# Altium footprint library aiskylab-14Connectors-16D-SubCon.PcbLib: 5 footprints
Each footprint in its own frame and in the unit in brackets; x right, y up, seen from the top. Pads: shape width x height; smd on the part's side, far side on the other; paste and mask are expansions set on the pad; w line width, h text height; cw(c..) or ccw(c..) is an arc to the next point about the centre after c.
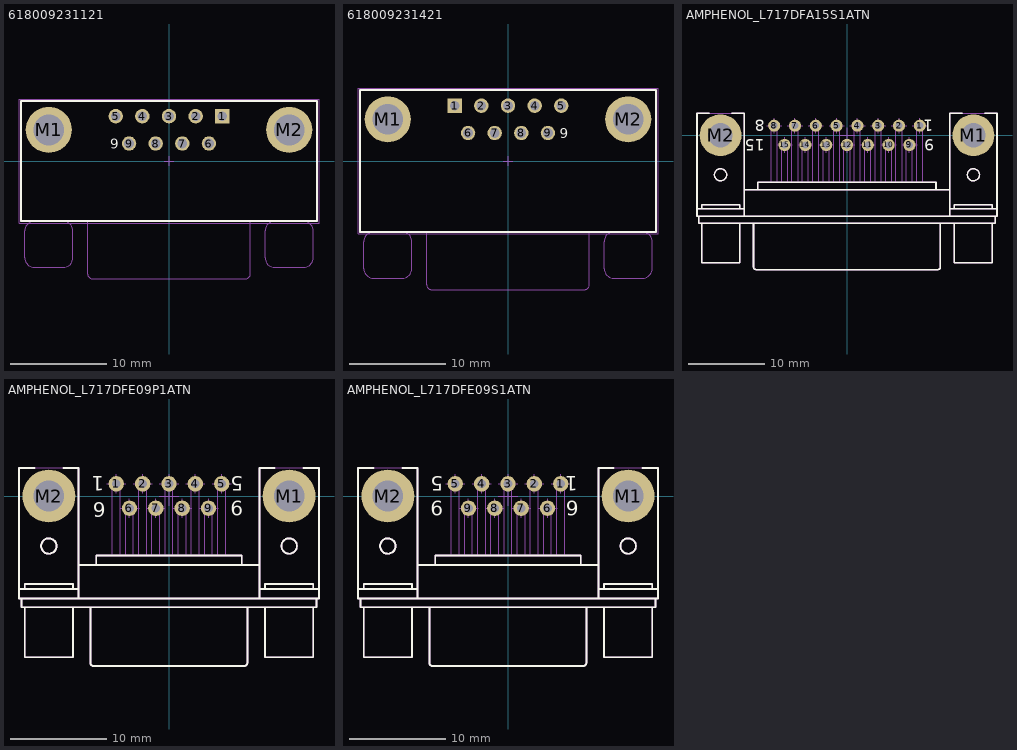
[diagram p0: the footprints below, top view; thin cyan lines are the x and y axes]

## 618009231121 [mm] "9 pins, right angled, 8.08mm, with hex screw"
height 12.5
pads (11):
  rect 1.5x1.5 hole 1: 1(5.54,4.67)
  round 1.5 hole 1: 2(2.77,4.67) 3(0,4.67) 4(-2.77,4.67) 5(-5.54,4.67) 6(4.155,1.83) 7(1.385,1.83) 8(-1.385,1.83) 9(-4.155,1.83)
  round 4.8 hole 3.2: M1(-12.5,3.25) M2(12.5,3.25)
Top Overlay:
  lines w0.2: -15.4,-6.25 -15.4,6.25 15.4,6.25 15.4,-6.25 -15.4,-6.25
  text "9" at -6.1,1.3 h1.02
Top Designator:
  lines w0.1: -15.4,-6.17 15.4,-6.17
  text "PCB Edge" at -3.5,-7.57 h1.02
  text ".Designator" at -7.618,-3.42 h1.52
Top Assembly:
  lines w0.1: -14,-6.25 ccw(c-14,-7.25) -15,-7.25 -15,-10.05 ccw(c-14,-10.05) -14,-11.05 -11,-11.05 ccw(c-11,-10.05) -10,-10.05 -10,-7.25 ccw(c-11,-7.25) -11,-6.25 ; -8.45,-6.25 -8.45,-11.75 ccw(c-7.95,-11.75) -7.95,-12.25 7.95,-12.25 ; 8.45,-6.25 8.45,-11.75 cw(c7.95,-11.75) 7.95,-12.25 ; 11,-6.25 ccw(c11,-7.25) 10,-7.25 10,-10.05 ccw(c11,-10.05) 11,-11.05 14,-11.05 ccw(c14,-10.05) 15,-10.05 15,-7.25 ccw(c14,-7.25) 14,-6.25 ; 7.95,-12.25 7.95,-12.25 ; -15.4,-6.25 15.4,-6.25 15.4,6.25 -15.4,6.25 -15.4,-6.25
Top Component Center:
  lines w0.05: -0.5,0 0.5,0 ; 0,-0.5 0,0.5
Top Component Outline:
  lines w0.05: -15.6,-6.45 15.6,-6.45 15.6,6.45 -15.6,6.45 -15.6,-6.45
Top 3D Body:
  lines w0.1: -14,-6.25 ccw(c-14,-7.25) -15,-7.25 -15,-10.05 ccw(c-14,-10.05) -14,-11.05 -11,-11.05 ccw(c-11,-10.05) -10,-10.05 -10,-7.25 ccw(c-11,-7.25) -11,-6.25 ; -8.45,-6.25 -8.45,-11.75 ccw(c-7.95,-11.75) -7.95,-12.25 7.95,-12.25 ; 8.45,-6.25 8.45,-11.75 cw(c7.95,-11.75) 7.95,-12.25 ; 11,-6.25 ccw(c11,-7.25) 10,-7.25 10,-10.05 ccw(c11,-10.05) 11,-11.05 14,-11.05 ccw(c14,-10.05) 15,-10.05 15,-7.25 ccw(c14,-7.25) 14,-6.25 ; 7.95,-12.25 7.95,-12.25 ; -15.4,-6.25 15.4,-6.25 15.4,6.25 -15.4,6.25 -15.4,-6.25
3D body "618009231121.stp": height 12.55, standoff -3.8, extent -15.4,-12.25 15.4,6.25

## 618009231421 [mm] "9 pins, right angled, 10.3mm, with hex screw"
height 12.5
pads (11):
  rect 1.5x1.5 hole 1: 1(-5.54,5.765)
  round 1.5 hole 1: 2(-2.77,5.765) 3(0,5.765) 4(2.77,5.765) 5(5.54,5.765) 6(-4.155,2.925) 7(-1.385,2.925) 8(1.385,2.925) 9(4.155,2.925)
  round 4.8 hole 3.2: M1(-12.5,4.345) M2(12.5,4.345)
Top Overlay:
  lines w0.2: -15.4,-7.375 -15.4,7.375 15.4,7.375 15.4,-7.375 -15.4,-7.375
  text "9" at 5.4,2.385 h1.02
Top Designator:
  lines w0.1: -15.4,-7.275 15.4,-7.275
  text "PCB Edge" at -3.8,-8.675 h1.02
  text ".Designator" at -7.618,-3.42 h1.52
Top Assembly:
  lines w0.1: -14,-7.375 ccw(c-14,-8.375) -15,-8.375 -15,-11.175 ccw(c-14,-11.175) -14,-12.175 -11,-12.175 ccw(c-11,-11.175) -10,-11.175 -10,-8.375 ccw(c-11,-8.375) -11,-7.375 ; -8.45,-7.375 -8.45,-12.875 ccw(c-7.95,-12.875) -7.95,-13.375 7.95,-13.375 ; 8.45,-7.375 8.45,-12.875 cw(c7.95,-12.875) 7.95,-13.375 ; 11,-7.375 ccw(c11,-8.375) 10,-8.375 10,-11.175 ccw(c11,-11.175) 11,-12.175 14,-12.175 ccw(c14,-11.175) 15,-11.175 15,-8.375 ccw(c14,-8.375) 14,-7.375 ; 7.95,-13.375 7.95,-13.375 ; -15.4,-7.375 15.4,-7.375 15.4,7.375 -15.4,7.375 -15.4,-7.375
Top Component Center:
  lines w0.05: -0.5,0 0.5,0 ; 0,-0.5 0,0.5
Top Component Outline:
  lines w0.05: -15.6,-7.575 -15.6,7.575 15.6,7.575 15.6,-7.575 -15.6,-7.575
Top 3D Body:
  lines w0.1: -14,-7.375 ccw(c-14,-8.375) -15,-8.375 -15,-11.175 ccw(c-14,-11.175) -14,-12.175 -11,-12.175 ccw(c-11,-11.175) -10,-11.175 -10,-8.375 ccw(c-11,-8.375) -11,-7.375 ; -8.45,-7.375 -8.45,-12.875 ccw(c-7.95,-12.875) -7.95,-13.375 7.95,-13.375 ; 8.45,-7.375 8.45,-12.875 cw(c7.95,-12.875) 7.95,-13.375 ; 11,-7.375 ccw(c11,-8.375) 10,-8.375 10,-11.175 ccw(c11,-11.175) 11,-12.175 14,-12.175 ccw(c14,-11.175) 15,-11.175 15,-8.375 ccw(c14,-8.375) 14,-7.375 ; 7.95,-13.375 7.95,-13.375 ; -15.4,-7.375 15.4,-7.375 15.4,7.375 -15.4,7.375 -15.4,-7.375
3D body "618009231421.stp": height 12.55, standoff -3.45, extent -15.405,-13.375 15.405,7.375

## AMPHENOL_L717DFA15S1ATN [mm] "Right Angled D-Sub 15 Female Contacts with Metal Bracket and Front Female Screwlock (UNC4-40)"
height 13.4
pads (17):
  round 1.6 hole 0.9: 1(9.59,1.27) 2(6.85,1.27) 3(4.11,1.27) 4(1.37,1.27) 5(-1.37,1.27) 6(-4.11,1.27) 7(-6.85,1.27) 8(-9.59,1.27) 9(8.22,-1.27) 10(5.48,-1.27) 11(2.74,-1.27) 12(0,-1.27) 13(-2.74,-1.27) 14(-5.48,-1.27) 15(-8.22,-1.27)
  round 5.5 hole 3.2: M1(16.65,0) M2(-16.65,0)
Top Overlay:
  circle w0.2: c16.65,-5.2 r0.8
  circle w0.2: c-16.65,-5.2 r0.8
  lines w0.2: -19.75,-9.67 -13.55,-9.67 ; -19.5,-10.67 -19.5,-11.57 19.5,-11.57 19.5,-10.67 ; -19.15,-11.57 -19.15,-16.77 -14.15,-16.77 -14.15,-11.57 ; -19.15,-9.67 -19.15,-9.17 -14.15,-9.17 -14.15,-9.67 ; -18.15,2.93 -19.75,2.93 -19.75,-10.67 19.75,-10.67 19.75,2.93 18.15,2.93 ; -15.15,2.93 -13.55,2.93 -13.55,-10.67 ; -13.55,-7.17 13.55,-7.17 ; -12.311,-11.57 -12.311,-17.37 ccw(c-12.011,-17.37) -12.011,-17.67 11.992,-17.67 ccw(c11.992,-17.37) 12.292,-17.37 12.292,-11.57 ; -11.72,-7.17 -11.72,-6.17 11.72,-6.17 11.72,-7.17 ; 13.55,-10.67 13.55,2.93 15.15,2.93 ; 13.55,-9.67 19.75,-9.67 13.689,-9.67 ; 14.15,-11.57 14.15,-16.77 19.15,-16.77 19.15,-11.57 ; 14.15,-9.67 14.15,-9.17 19.15,-9.17 19.15,-9.67
  text "15" at -10.841,-0.508 h1.5
  text "8" at -10.841,2.032 h1.5
  text "1" at 11.349,2.032 h1.5
  text "9" at 11.476,-0.508 h1.5
Top Designator:
  text ".Designator" at 7.618,-6.862 h1.52
Top Assembly:
  circle w0.1: c16.65,0 r1.6
  circle w0.1: c16.65,-5.2 r0.8
  circle w0.1: c-16.65,-5.2 r0.8
  circle w0.1: c-16.65,0 r1.6
  lines w0.1: -19.75,-9.67 -13.55,-9.67 ; -19.5,-10.67 -19.5,-11.57 19.5,-11.57 19.5,-10.67 ; -19.15,-11.57 -19.15,-16.77 -14.15,-16.77 -14.15,-11.57 ; -19.15,-9.67 -19.15,-9.17 -14.15,-9.17 -14.15,-9.67 ; -13.55,-10.67 -13.55,2.93 -19.75,2.93 -19.75,-10.67 19.75,-10.67 19.75,2.93 13.55,2.93 13.55,-10.67 ; -13.55,-7.17 13.55,-7.17 ; -12.311,-11.57 -12.311,-17.37 ccw(c-12.011,-17.37) -12.011,-17.67 11.992,-17.67 ccw(c11.992,-17.37) 12.292,-17.37 12.292,-11.57 ; -11.72,-7.17 -11.72,-6.17 11.72,-6.17 11.72,-7.17 ; -9.99,-6.17 -9.99,1.27 cw(c-9.59,1.27) -9.19,1.27 -9.19,-6.17 ; -8.62,-6.17 -8.62,-1.27 cw(c-8.22,-1.27) -7.82,-1.27 -7.82,-6.17 ; -7.25,-6.17 -7.25,1.27 cw(c-6.85,1.27) -6.45,1.27 -6.45,-6.17 ; -5.88,-6.17 -5.88,-1.27 cw(c-5.48,-1.27) -5.08,-1.27 -5.08,-6.17 ; -4.51,-6.17 -4.51,1.27 cw(c-4.11,1.27) -3.71,1.27 -3.71,-6.17 ; -3.14,-6.17 -3.14,-1.27 cw(c-2.74,-1.27) -2.34,-1.27 -2.34,-6.17 ; -1.77,-6.17 -1.77,1.27 cw(c-1.37,1.27) -0.97,1.27 -0.97,-6.17 ; -0.4,-6.17 -0.4,-1.27 cw(c0,-1.27) 0.4,-1.27 0.4,-6.17 ; 0.97,-6.17 0.97,1.27 cw(c1.37,1.27) 1.77,1.27 1.77,-6.17 ; 2.34,-6.17 2.34,-1.27 cw(c2.74,-1.27) 3.14,-1.27 3.14,-6.17 ; 3.71,-6.17 3.71,1.27 cw(c4.11,1.27) 4.51,1.27 4.51,-6.17 ; 5.08,-6.17 5.08,-1.27 cw(c5.48,-1.27) 5.88,-1.27 5.88,-6.17 ; 6.45,-6.17 6.45,1.27 cw(c6.85,1.27) 7.25,1.27 7.25,-6.17 ; 7.82,-6.17 7.82,-1.27 cw(c8.22,-1.27) 8.62,-1.27 8.62,-6.17 ; 9.19,-6.17 9.19,1.27 cw(c9.59,1.27) 9.99,1.27 9.99,-6.17 ; 13.55,-9.67 19.75,-9.67 13.689,-9.67 ; 14.15,-11.57 14.15,-16.77 19.15,-16.77 19.15,-11.57 ; 14.15,-9.67 14.15,-9.17 19.15,-9.17 19.15,-9.67
Top Component Center:
  lines w0.1: -17.65,0 -16.65,0 ; -16.65,-1 -16.65,0 ; -16.65,1 -16.65,0 ; -15.65,0 -16.65,0 ; -10.59,1.27 -9.59,1.27 ; -9.59,0.27 -9.59,1.27 ; -9.59,2.27 -9.59,1.27 ; -9.22,-1.27 -8.22,-1.27 ; -8.59,1.27 -9.59,1.27 ; -8.22,-2.27 -8.22,-1.27 ; -8.22,-0.27 -8.22,-1.27 ; -7.85,1.27 -6.85,1.27 ; -7.22,-1.27 -8.22,-1.27 ; -6.85,0.27 -6.85,1.27 ; -6.85,2.27 -6.85,1.27 ; -6.48,-1.27 -5.48,-1.27 ; -5.85,1.27 -6.85,1.27 ; -5.48,-2.27 -5.48,-1.27 ; -5.48,-0.27 -5.48,-1.27 ; -5.11,1.27 -4.11,1.27 ; -4.48,-1.27 -5.48,-1.27 ; -4.11,0.27 -4.11,1.27 ; -4.11,2.27 -4.11,1.27 ; -3.74,-1.27 -2.74,-1.27 ; -3.11,1.27 -4.11,1.27 ; -2.74,-2.27 -2.74,-1.27 ; -2.74,-0.27 -2.74,-1.27 ; -2.37,1.27 -1.37,1.27 ; -1.74,-1.27 -2.74,-1.27 ; -1.37,0.27 -1.37,1.27 ; -1.37,2.27 -1.37,1.27 ; -1,-1.27 0,-1.27 ; -1,0 0,0 ; -0.37,1.27 -1.37,1.27 ; 0,-2.27 0,-1.27 ; 0,-1 0,0 ; 0,-0.27 0,-1.27 ; 0,1 0,0 ; 0.37,1.27 1.37,1.27 ; 1,-1.27 0,-1.27 ; 1,0 0,0 ; 1.37,0.27 1.37,1.27 ; 1.37,2.27 1.37,1.27 ; 1.74,-1.27 2.74,-1.27 ; 2.37,1.27 1.37,1.27 ; 2.74,-2.27 2.74,-1.27 ; 2.74,-0.27 2.74,-1.27 ; 3.11,1.27 4.11,1.27 ; 3.74,-1.27 2.74,-1.27 ; 4.11,0.27 4.11,1.27 ; 4.11,2.27 4.11,1.27 ; 4.48,-1.27 5.48,-1.27 ; 5.11,1.27 4.11,1.27 ; 5.48,-2.27 5.48,-1.27 ; 5.48,-0.27 5.48,-1.27 ; 5.85,1.27 6.85,1.27 ; 6.48,-1.27 5.48,-1.27 ; 6.85,0.27 6.85,1.27 ; 6.85,2.27 6.85,1.27 ; 7.22,-1.27 8.22,-1.27 ; 7.85,1.27 6.85,1.27 ; 8.22,-2.27 8.22,-1.27 ; 8.22,-0.27 8.22,-1.27 ; 8.59,1.27 9.59,1.27 ; 9.22,-1.27 8.22,-1.27 ; 9.59,0.27 9.59,1.27 ; 9.59,2.27 9.59,1.27 ; 10.59,1.27 9.59,1.27 ; 15.65,0 16.65,0 ; 16.65,-1 16.65,0 ; 16.65,1 16.65,0 ; 17.65,0 16.65,0
Top Component Outline:
  circle w0.2: c16.65,-5.2 r0.8
  circle w0.2: c-16.65,-5.2 r0.8
  lines w0.2: -19.75,-9.67 -13.55,-9.67 ; -19.5,-10.67 -19.5,-11.57 19.5,-11.57 19.5,-10.67 ; -19.15,-11.57 -19.15,-16.77 -14.15,-16.77 -14.15,-11.57 ; -19.15,-9.67 -19.15,-9.17 -14.15,-9.17 -14.15,-9.67 ; -18.15,2.93 -19.75,2.93 -19.75,-10.67 19.75,-10.67 19.75,2.93 18.15,2.93 ; -15.15,2.93 -13.55,2.93 -13.55,-10.67 ; -13.55,-7.17 13.55,-7.17 ; -12.311,-11.57 -12.311,-17.37 ccw(c-12.011,-17.37) -12.011,-17.67 11.992,-17.67 ccw(c11.992,-17.37) 12.292,-17.37 12.292,-11.57 ; -11.72,-7.17 -11.72,-6.17 11.72,-6.17 11.72,-7.17 ; 13.55,-10.67 13.55,2.93 15.15,2.93 ; 13.55,-9.67 19.75,-9.67 13.689,-9.67 ; 14.15,-11.57 14.15,-16.77 19.15,-16.77 19.15,-11.57 ; 14.15,-9.67 14.15,-9.17 19.15,-9.17 19.15,-9.67
  text "15" at -10.841,-0.508 h1.5
  text "8" at -10.841,2.032 h1.5
  text "1" at 11.349,2.032 h1.5
  text "9" at 11.476,-0.508 h1.5
Top 3D Body:
  circle w0.1: c16.65,0 r1.6
  circle w0.1: c16.65,-5.2 r0.8
  circle w0.1: c-16.65,-5.2 r0.8
  circle w0.1: c-16.65,0 r1.6
  lines w0.1: -19.75,-9.67 -13.55,-9.67 ; -19.5,-10.67 -19.5,-11.57 19.5,-11.57 19.5,-10.67 ; -19.15,-11.57 -19.15,-16.77 -14.15,-16.77 -14.15,-11.57 ; -19.15,-9.67 -19.15,-9.17 -14.15,-9.17 -14.15,-9.67 ; -13.55,-10.67 -13.55,2.93 -19.75,2.93 -19.75,-10.67 19.75,-10.67 19.75,2.93 13.55,2.93 13.55,-10.67 ; -13.55,-7.17 13.55,-7.17 ; -12.311,-11.57 -12.311,-17.37 ccw(c-12.011,-17.37) -12.011,-17.67 11.992,-17.67 ccw(c11.992,-17.37) 12.292,-17.37 12.292,-11.57 ; -11.72,-7.17 -11.72,-6.17 11.72,-6.17 11.72,-7.17 ; -9.99,-6.17 -9.99,1.27 cw(c-9.59,1.27) -9.19,1.27 -9.19,-6.17 ; -8.62,-6.17 -8.62,-1.27 cw(c-8.22,-1.27) -7.82,-1.27 -7.82,-6.17 ; -7.25,-6.17 -7.25,1.27 cw(c-6.85,1.27) -6.45,1.27 -6.45,-6.17 ; -5.88,-6.17 -5.88,-1.27 cw(c-5.48,-1.27) -5.08,-1.27 -5.08,-6.17 ; -4.51,-6.17 -4.51,1.27 cw(c-4.11,1.27) -3.71,1.27 -3.71,-6.17 ; -3.14,-6.17 -3.14,-1.27 cw(c-2.74,-1.27) -2.34,-1.27 -2.34,-6.17 ; -1.77,-6.17 -1.77,1.27 cw(c-1.37,1.27) -0.97,1.27 -0.97,-6.17 ; -0.4,-6.17 -0.4,-1.27 cw(c0,-1.27) 0.4,-1.27 0.4,-6.17 ; 0.97,-6.17 0.97,1.27 cw(c1.37,1.27) 1.77,1.27 1.77,-6.17 ; 2.34,-6.17 2.34,-1.27 cw(c2.74,-1.27) 3.14,-1.27 3.14,-6.17 ; 3.71,-6.17 3.71,1.27 cw(c4.11,1.27) 4.51,1.27 4.51,-6.17 ; 5.08,-6.17 5.08,-1.27 cw(c5.48,-1.27) 5.88,-1.27 5.88,-6.17 ; 6.45,-6.17 6.45,1.27 cw(c6.85,1.27) 7.25,1.27 7.25,-6.17 ; 7.82,-6.17 7.82,-1.27 cw(c8.22,-1.27) 8.62,-1.27 8.62,-6.17 ; 9.19,-6.17 9.19,1.27 cw(c9.59,1.27) 9.99,1.27 9.99,-6.17 ; 13.55,-9.67 19.75,-9.67 13.689,-9.67 ; 14.15,-11.57 14.15,-16.77 19.15,-16.77 19.15,-11.57 ; 14.15,-9.67 14.15,-9.17 19.15,-9.17 19.15,-9.67
3D body "AMPHENOL_L717DFA15S1ATN.stp": height 13.45, standoff -3.95, extent -19.75,-17.67 19.75,2.93
3D body "v160-080.stp": height 0.02, standoff -1.65, extent -7.65,0.47 -6.05,2.07
3D body "v160-080.stp": height 0.02, standoff -1.65, extent 8.79,0.47 10.39,2.07
3D body "v160-080.stp": height 0.02, standoff -1.65, extent 0.57,0.47 2.17,2.07
3D body "v160-080.stp": height 0.02, standoff -1.65, extent -10.39,0.47 -8.79,2.07
3D body "v160-080.stp": height 0.02, standoff -1.65, extent -2.17,0.47 -0.57,2.07
3D body "v160-080.stp": height 0.02, standoff -1.65, extent -4.91,0.47 -3.31,2.07
3D body "v160-080.stp": height 0.02, standoff -1.65, extent 6.05,0.47 7.65,2.07
3D body "v160-080.stp": height 0.02, standoff -1.65, extent 3.31,0.47 4.91,2.07
3D body "v160-080.stp": height 0.02, standoff -1.65, extent -9.02,-2.07 -7.42,-0.47
3D body "v160-080.stp": height 0.02, standoff -1.65, extent -0.8,-2.07 0.8,-0.47
3D body "v160-080.stp": height 0.02, standoff -1.65, extent -3.54,-2.07 -1.94,-0.47
3D body "v160-080.stp": height 0.02, standoff -1.65, extent -6.28,-2.07 -4.68,-0.47
3D body "v160-080.stp": height 0.02, standoff -1.65, extent 7.42,-2.07 9.02,-0.47
3D body "v160-080.stp": height 0.02, standoff -1.65, extent 4.68,-2.07 6.28,-0.47
3D body "v160-080.stp": height 0.02, standoff -1.65, extent 1.94,-2.07 3.54,-0.47

## AMPHENOL_L717DFE09P1ATN [mm] "Right Angled D-Sub 9 Male Contacts with Metal Bracket and Front Female Screwlock (UNC4-40)"
height 13.4
pads (11):
  round 1.6 hole 0.9: 1(-5.48,1.27) 2(-2.74,1.27) 3(0,1.27) 4(2.74,1.27) 5(5.48,1.27) 6(-4.11,-1.27) 7(-1.37,-1.27) 8(1.37,-1.27) 9(4.11,-1.27)
  round 5.5 hole 3.2: M1(12.495,0) M2(-12.495,0)
Top Overlay:
  circle w0.2: c-12.5,-5.2 r0.8
  circle w0.2: c12.5,-5.2 r0.8
  lines w0.2: -15.6,-9.67 -9.4,-9.67 ; -15.35,-10.67 -15.35,-11.57 15.35,-11.57 15.35,-10.67 ; -15,-11.57 -15,-16.77 -10,-16.77 -10,-11.57 ; -15,-9.67 -15,-9.17 -10,-9.17 -10,-9.67 ; -14,2.93 -15.6,2.93 -15.6,-10.67 15.6,-10.67 15.6,2.93 14,2.93 ; -11,2.93 -9.4,2.93 -9.4,-10.67 ; -9.4,-7.17 9.4,-7.17 ; -8.161,-11.57 -8.161,-17.37 ccw(c-7.861,-17.37) -7.861,-17.67 7.842,-17.67 ccw(c7.842,-17.37) 8.142,-17.37 8.142,-11.57 ; -7.57,-7.17 -7.57,-6.17 7.57,-6.17 7.57,-7.17 ; 9.4,-10.67 9.4,2.93 11,2.93 ; 9.4,-9.67 15.6,-9.67 9.539,-9.67 ; 10,-11.57 10,-16.77 15,-16.77 15,-11.57 ; 10,-9.67 10,-9.17 15,-9.17 15,-9.67
  text "6" at -6.604,-0.635 h1.5
  text "5" at 7.747,2.032 h1.5
  text "1" at -6.731,2.032 h1.5
  text "9" at 7.747,-0.508 h1.5
Top Designator:
  text ".Designator" at 7.618,-6.862 h1.52
Top Assembly:
  circle w0.1: c-12.5,0 r1.6
  circle w0.1: c-12.5,-5.2 r0.8
  circle w0.1: c12.5,-5.2 r0.8
  circle w0.1: c12.5,0 r1.6
  lines w0.1: -15.6,-9.67 -9.4,-9.67 ; -15.35,-10.67 -15.35,-11.57 15.35,-11.57 15.35,-10.67 ; -15,-11.57 -15,-16.77 -10,-16.77 -10,-11.57 ; -15,-9.67 -15,-9.17 -10,-9.17 -10,-9.67 ; -9.4,-10.67 -9.4,2.93 -15.6,2.93 -15.6,-10.67 15.6,-10.67 15.6,2.93 9.4,2.93 9.4,-10.67 ; -9.4,-7.17 9.4,-7.17 ; -8.161,-11.57 -8.161,-17.37 ccw(c-7.861,-17.37) -7.861,-17.67 7.842,-17.67 ccw(c7.842,-17.37) 8.142,-17.37 8.142,-11.57 ; -7.57,-7.17 -7.57,-6.17 7.57,-6.17 7.57,-7.17 ; -5.88,-6.17 -5.88,1.27 cw(c-5.48,1.27) -5.08,1.27 -5.08,-6.17 ; -4.51,-6.17 -4.51,-1.27 cw(c-4.11,-1.27) -3.71,-1.27 -3.71,-6.17 ; -3.14,-6.17 -3.14,1.27 cw(c-2.74,1.27) -2.34,1.27 -2.34,-6.17 ; -1.77,-6.17 -1.77,-1.27 cw(c-1.37,-1.27) -0.97,-1.27 -0.97,-6.17 ; -0.4,-6.17 -0.4,1.27 cw(c0,1.27) 0.4,1.27 0.4,-6.17 ; 0.97,-6.17 0.97,-1.27 cw(c1.37,-1.27) 1.77,-1.27 1.77,-6.17 ; 2.34,-6.17 2.34,1.27 cw(c2.74,1.27) 3.14,1.27 3.14,-6.17 ; 3.71,-6.17 3.71,-1.27 cw(c4.11,-1.27) 4.51,-1.27 4.51,-6.17 ; 5.08,-6.17 5.08,1.27 cw(c5.48,1.27) 5.88,1.27 5.88,-6.17 ; 9.4,-9.67 15.6,-9.67 9.539,-9.67 ; 10,-11.57 10,-16.77 15,-16.77 15,-11.57 ; 10,-9.67 10,-9.17 15,-9.17 15,-9.67
Top Component Center:
  lines w0.1: -13.5,0 -12.5,0 ; -12.5,-1 -12.5,0 ; -12.5,1 -12.5,0 ; -11.5,0 -12.5,0 ; -6.48,1.27 -5.48,1.27 ; -5.48,0.27 -5.48,1.27 ; -5.48,2.27 -5.48,1.27 ; -5.11,-1.27 -4.11,-1.27 ; -4.48,1.27 -5.48,1.27 ; -4.11,-2.27 -4.11,-1.27 ; -4.11,-0.27 -4.11,-1.27 ; -3.74,1.27 -2.74,1.27 ; -3.11,-1.27 -4.11,-1.27 ; -2.74,0.27 -2.74,1.27 ; -2.74,2.27 -2.74,1.27 ; -2.37,-1.27 -1.37,-1.27 ; -1.74,1.27 -2.74,1.27 ; -1.37,-2.27 -1.37,-1.27 ; -1.37,-0.27 -1.37,-1.27 ; -1,0 0,0 ; -1,1.27 0,1.27 ; -0.37,-1.27 -1.37,-1.27 ; 0,-1 0,0 ; 0,0.27 0,1.27 ; 0,1 0,0 ; 0,2.27 0,1.27 ; 0.37,-1.27 1.37,-1.27 ; 1,0 0,0 ; 1,1.27 0,1.27 ; 1.37,-2.27 1.37,-1.27 ; 1.37,-0.27 1.37,-1.27 ; 1.74,1.27 2.74,1.27 ; 2.37,-1.27 1.37,-1.27 ; 2.74,0.27 2.74,1.27 ; 2.74,2.27 2.74,1.27 ; 3.11,-1.27 4.11,-1.27 ; 3.74,1.27 2.74,1.27 ; 4.11,-2.27 4.11,-1.27 ; 4.11,-0.27 4.11,-1.27 ; 4.48,1.27 5.48,1.27 ; 5.11,-1.27 4.11,-1.27 ; 5.48,0.27 5.48,1.27 ; 5.48,2.27 5.48,1.27 ; 6.48,1.27 5.48,1.27 ; 11.5,0 12.5,0 ; 12.5,-1 12.5,0 ; 12.5,1 12.5,0 ; 13.5,0 12.5,0
Top Component Outline:
  circle w0.2: c-12.5,-5.2 r0.8
  circle w0.2: c12.5,-5.2 r0.8
  lines w0.2: -15.6,-9.67 -9.4,-9.67 ; -15.35,-10.67 -15.35,-11.57 15.35,-11.57 15.35,-10.67 ; -15,-11.57 -15,-16.77 -10,-16.77 -10,-11.57 ; -15,-9.67 -15,-9.17 -10,-9.17 -10,-9.67 ; -14,2.93 -15.6,2.93 -15.6,-10.67 15.6,-10.67 15.6,2.93 14,2.93 ; -11,2.93 -9.4,2.93 -9.4,-10.67 ; -9.4,-7.17 9.4,-7.17 ; -8.161,-11.57 -8.161,-17.37 ccw(c-7.861,-17.37) -7.861,-17.67 7.842,-17.67 ccw(c7.842,-17.37) 8.142,-17.37 8.142,-11.57 ; -7.57,-7.17 -7.57,-6.17 7.57,-6.17 7.57,-7.17 ; 9.4,-10.67 9.4,2.93 11,2.93 ; 9.4,-9.67 15.6,-9.67 9.539,-9.67 ; 10,-11.57 10,-16.77 15,-16.77 15,-11.57 ; 10,-9.67 10,-9.17 15,-9.17 15,-9.67
  text "6" at -6.604,-0.635 h1.5
  text "5" at 7.747,2.032 h1.5
  text "1" at -6.731,2.032 h1.5
  text "9" at 7.747,-0.508 h1.5
Top 3D Body:
  circle w0.1: c-12.5,0 r1.6
  circle w0.1: c-12.5,-5.2 r0.8
  circle w0.1: c12.5,-5.2 r0.8
  circle w0.1: c12.5,0 r1.6
  lines w0.1: -15.6,-9.67 -9.4,-9.67 ; -15.35,-10.67 -15.35,-11.57 15.35,-11.57 15.35,-10.67 ; -15,-11.57 -15,-16.77 -10,-16.77 -10,-11.57 ; -15,-9.67 -15,-9.17 -10,-9.17 -10,-9.67 ; -9.4,-10.67 -9.4,2.93 -15.6,2.93 -15.6,-10.67 15.6,-10.67 15.6,2.93 9.4,2.93 9.4,-10.67 ; -9.4,-7.17 9.4,-7.17 ; -8.161,-11.57 -8.161,-17.37 ccw(c-7.861,-17.37) -7.861,-17.67 7.842,-17.67 ccw(c7.842,-17.37) 8.142,-17.37 8.142,-11.57 ; -7.57,-7.17 -7.57,-6.17 7.57,-6.17 7.57,-7.17 ; -5.88,-6.17 -5.88,1.27 cw(c-5.48,1.27) -5.08,1.27 -5.08,-6.17 ; -4.51,-6.17 -4.51,-1.27 cw(c-4.11,-1.27) -3.71,-1.27 -3.71,-6.17 ; -3.14,-6.17 -3.14,1.27 cw(c-2.74,1.27) -2.34,1.27 -2.34,-6.17 ; -1.77,-6.17 -1.77,-1.27 cw(c-1.37,-1.27) -0.97,-1.27 -0.97,-6.17 ; -0.4,-6.17 -0.4,1.27 cw(c0,1.27) 0.4,1.27 0.4,-6.17 ; 0.97,-6.17 0.97,-1.27 cw(c1.37,-1.27) 1.77,-1.27 1.77,-6.17 ; 2.34,-6.17 2.34,1.27 cw(c2.74,1.27) 3.14,1.27 3.14,-6.17 ; 3.71,-6.17 3.71,-1.27 cw(c4.11,-1.27) 4.51,-1.27 4.51,-6.17 ; 5.08,-6.17 5.08,1.27 cw(c5.48,1.27) 5.88,1.27 5.88,-6.17 ; 9.4,-9.67 15.6,-9.67 9.539,-9.67 ; 10,-11.57 10,-16.77 15,-16.77 15,-11.57 ; 10,-9.67 10,-9.17 15,-9.17 15,-9.67
3D body "v160-080.stp": height 0.02, standoff -1.65, extent 3.31,-2.07 4.91,-0.47
3D body "v160-080.stp": height 0.02, standoff -1.65, extent -2.17,-2.07 -0.57,-0.47
3D body "v160-080.stp": height 0.02, standoff -1.65, extent -4.91,-2.07 -3.31,-0.47
3D body "v160-080.stp": height 0.02, standoff -1.65, extent 4.68,0.47 6.28,2.07
3D body "v160-080.stp": height 0.02, standoff -1.65, extent 1.94,0.47 3.54,2.07
3D body "v160-080.stp": height 0.02, standoff -1.65, extent -0.8,0.47 0.8,2.07
3D body "v160-080.stp": height 0.02, standoff -1.65, extent -3.54,0.47 -1.94,2.07
3D body "v160-080.stp": height 0.02, standoff -1.65, extent -6.28,0.47 -4.68,2.07
3D body "v160-080.stp": height 0.02, standoff -1.65, extent 0.57,-2.07 2.17,-0.47
3D body "AMPHENOL_L717DFE09P1ATN.stp": height 13.45, standoff -3.95, extent -15.6,-17.67 15.6,2.93

## AMPHENOL_L717DFE09S1ATN [mm] "Right Angled D-Sub 9 Female Contacts with Metal Bracket and Front Female Screwlock (UNC4-40)"
height 13.4
pads (11):
  round 1.6 hole 0.9: 1(5.48,1.27) 2(2.74,1.27) 3(0,1.27) 4(-2.74,1.27) 5(-5.48,1.27) 6(4.11,-1.27) 7(1.37,-1.27) 8(-1.37,-1.27) 9(-4.11,-1.27)
  round 5.5 hole 3.2: M1(12.495,0) M2(-12.495,0)
Top Overlay:
  circle w0.2: c12.5,-5.2 r0.8
  circle w0.2: c-12.5,-5.2 r0.8
  lines w0.2: -15.6,-9.67 -9.4,-9.67 ; -15.35,-10.67 -15.35,-11.57 15.35,-11.57 15.35,-10.67 ; -15,-11.57 -15,-16.77 -10,-16.77 -10,-11.57 ; -15,-9.67 -15,-9.17 -10,-9.17 -10,-9.67 ; -14,2.93 -15.6,2.93 -15.6,-10.67 15.6,-10.67 15.6,2.93 14,2.93 ; -11,2.93 -9.4,2.93 -9.4,-10.67 ; -9.4,-7.17 9.4,-7.17 ; -8.161,-11.57 -8.161,-17.37 ccw(c-7.861,-17.37) -7.861,-17.67 7.842,-17.67 ccw(c7.842,-17.37) 8.142,-17.37 8.142,-11.57 ; -7.57,-7.17 -7.57,-6.17 7.57,-6.17 7.57,-7.17 ; 9.4,-10.67 9.4,2.93 11,2.93 ; 9.4,-9.67 15.6,-9.67 9.539,-9.67 ; 10,-11.57 10,-16.77 15,-16.77 15,-11.57 ; 10,-9.67 10,-9.17 15,-9.17 15,-9.67
  text "6" at 7.366,-0.508 h1.5
  text "5" at -6.731,2.032 h1.5
  text "1" at 7.239,2.032 h1.5
  text "9" at -6.731,-0.508 h1.5
Top Designator:
  text ".Designator" at 7.618,-6.862 h1.52
Top Assembly:
  circle w0.1: c12.5,0 r1.6
  circle w0.1: c12.5,-5.2 r0.8
  circle w0.1: c-12.5,-5.2 r0.8
  circle w0.1: c-12.5,0 r1.6
  lines w0.1: -15.6,-9.67 -9.4,-9.67 ; -15.35,-10.67 -15.35,-11.57 15.35,-11.57 15.35,-10.67 ; -15,-11.57 -15,-16.77 -10,-16.77 -10,-11.57 ; -15,-9.67 -15,-9.17 -10,-9.17 -10,-9.67 ; -9.4,-10.67 -9.4,2.93 -15.6,2.93 -15.6,-10.67 15.6,-10.67 15.6,2.93 9.4,2.93 9.4,-10.67 ; -9.4,-7.17 9.4,-7.17 ; -8.161,-11.57 -8.161,-17.37 ccw(c-7.861,-17.37) -7.861,-17.67 7.842,-17.67 ccw(c7.842,-17.37) 8.142,-17.37 8.142,-11.57 ; -7.57,-7.17 -7.57,-6.17 7.57,-6.17 7.57,-7.17 ; -5.88,-6.17 -5.88,1.27 cw(c-5.48,1.27) -5.08,1.27 -5.08,-6.17 ; -4.51,-6.17 -4.51,-1.27 cw(c-4.11,-1.27) -3.71,-1.27 -3.71,-6.17 ; -3.14,-6.17 -3.14,1.27 cw(c-2.74,1.27) -2.34,1.27 -2.34,-6.17 ; -1.77,-6.17 -1.77,-1.27 cw(c-1.37,-1.27) -0.97,-1.27 -0.97,-6.17 ; -0.4,-6.17 -0.4,1.27 cw(c0,1.27) 0.4,1.27 0.4,-6.17 ; 0.97,-6.17 0.97,-1.27 cw(c1.37,-1.27) 1.77,-1.27 1.77,-6.17 ; 2.34,-6.17 2.34,1.27 cw(c2.74,1.27) 3.14,1.27 3.14,-6.17 ; 3.71,-6.17 3.71,-1.27 cw(c4.11,-1.27) 4.51,-1.27 4.51,-6.17 ; 5.08,-6.17 5.08,1.27 cw(c5.48,1.27) 5.88,1.27 5.88,-6.17 ; 9.4,-9.67 15.6,-9.67 9.539,-9.67 ; 10,-11.57 10,-16.77 15,-16.77 15,-11.57 ; 10,-9.67 10,-9.17 15,-9.17 15,-9.67
Top Dimensions:
  lines w0.1: -13.5,0 -12.5,0 ; -12.5,-1 -12.5,0 ; -12.5,1 -12.5,0 ; -11.5,0 -12.5,0 ; -6.48,1.27 -5.48,1.27 ; -5.48,0.27 -5.48,1.27 ; -5.48,2.27 -5.48,1.27 ; -5.11,-1.27 -4.11,-1.27 ; -4.48,1.27 -5.48,1.27 ; -4.11,-2.27 -4.11,-1.27 ; -4.11,-0.27 -4.11,-1.27 ; -3.74,1.27 -2.74,1.27 ; -3.11,-1.27 -4.11,-1.27 ; -2.74,0.27 -2.74,1.27 ; -2.74,2.27 -2.74,1.27 ; -2.37,-1.27 -1.37,-1.27 ; -1.74,1.27 -2.74,1.27 ; -1.37,-2.27 -1.37,-1.27 ; -1.37,-0.27 -1.37,-1.27 ; -1,0 0,0 ; -1,1.27 0,1.27 ; -0.37,-1.27 -1.37,-1.27 ; 0,-1 0,0 ; 0,0.27 0,1.27 ; 0,1 0,0 ; 0,2.27 0,1.27 ; 0.37,-1.27 1.37,-1.27 ; 1,0 0,0 ; 1,1.27 0,1.27 ; 1.37,-2.27 1.37,-1.27 ; 1.37,-0.27 1.37,-1.27 ; 1.74,1.27 2.74,1.27 ; 2.37,-1.27 1.37,-1.27 ; 2.74,0.27 2.74,1.27 ; 2.74,2.27 2.74,1.27 ; 3.11,-1.27 4.11,-1.27 ; 3.74,1.27 2.74,1.27 ; 4.11,-2.27 4.11,-1.27 ; 4.11,-0.27 4.11,-1.27 ; 4.48,1.27 5.48,1.27 ; 5.11,-1.27 4.11,-1.27 ; 5.48,0.27 5.48,1.27 ; 5.48,2.27 5.48,1.27 ; 6.48,1.27 5.48,1.27 ; 11.5,0 12.5,0 ; 12.5,-1 12.5,0 ; 12.5,1 12.5,0 ; 13.5,0 12.5,0
Top Component Outline:
  circle w0.2: c12.5,-5.2 r0.8
  circle w0.2: c-12.5,-5.2 r0.8
  lines w0.2: -15.6,-9.67 -9.4,-9.67 ; -15.35,-10.67 -15.35,-11.57 15.35,-11.57 15.35,-10.67 ; -15,-11.57 -15,-16.77 -10,-16.77 -10,-11.57 ; -15,-9.67 -15,-9.17 -10,-9.17 -10,-9.67 ; -14,2.93 -15.6,2.93 -15.6,-10.67 15.6,-10.67 15.6,2.93 14,2.93 ; -11,2.93 -9.4,2.93 -9.4,-10.67 ; -9.4,-7.17 9.4,-7.17 ; -8.161,-11.57 -8.161,-17.37 ccw(c-7.861,-17.37) -7.861,-17.67 7.842,-17.67 ccw(c7.842,-17.37) 8.142,-17.37 8.142,-11.57 ; -7.57,-7.17 -7.57,-6.17 7.57,-6.17 7.57,-7.17 ; 9.4,-10.67 9.4,2.93 11,2.93 ; 9.4,-9.67 15.6,-9.67 9.539,-9.67 ; 10,-11.57 10,-16.77 15,-16.77 15,-11.57 ; 10,-9.67 10,-9.17 15,-9.17 15,-9.67
  text "6" at 7.366,-0.508 h1.5
  text "5" at -6.731,2.032 h1.5
  text "1" at 7.239,2.032 h1.5
  text "9" at -6.731,-0.508 h1.5
Top 3D Body:
  circle w0.1: c12.5,0 r1.6
  circle w0.1: c12.5,-5.2 r0.8
  circle w0.1: c-12.5,-5.2 r0.8
  circle w0.1: c-12.5,0 r1.6
  lines w0.1: -15.6,-9.67 -9.4,-9.67 ; -15.35,-10.67 -15.35,-11.57 15.35,-11.57 15.35,-10.67 ; -15,-11.57 -15,-16.77 -10,-16.77 -10,-11.57 ; -15,-9.67 -15,-9.17 -10,-9.17 -10,-9.67 ; -9.4,-10.67 -9.4,2.93 -15.6,2.93 -15.6,-10.67 15.6,-10.67 15.6,2.93 9.4,2.93 9.4,-10.67 ; -9.4,-7.17 9.4,-7.17 ; -8.161,-11.57 -8.161,-17.37 ccw(c-7.861,-17.37) -7.861,-17.67 7.842,-17.67 ccw(c7.842,-17.37) 8.142,-17.37 8.142,-11.57 ; -7.57,-7.17 -7.57,-6.17 7.57,-6.17 7.57,-7.17 ; -5.88,-6.17 -5.88,1.27 cw(c-5.48,1.27) -5.08,1.27 -5.08,-6.17 ; -4.51,-6.17 -4.51,-1.27 cw(c-4.11,-1.27) -3.71,-1.27 -3.71,-6.17 ; -3.14,-6.17 -3.14,1.27 cw(c-2.74,1.27) -2.34,1.27 -2.34,-6.17 ; -1.77,-6.17 -1.77,-1.27 cw(c-1.37,-1.27) -0.97,-1.27 -0.97,-6.17 ; -0.4,-6.17 -0.4,1.27 cw(c0,1.27) 0.4,1.27 0.4,-6.17 ; 0.97,-6.17 0.97,-1.27 cw(c1.37,-1.27) 1.77,-1.27 1.77,-6.17 ; 2.34,-6.17 2.34,1.27 cw(c2.74,1.27) 3.14,1.27 3.14,-6.17 ; 3.71,-6.17 3.71,-1.27 cw(c4.11,-1.27) 4.51,-1.27 4.51,-6.17 ; 5.08,-6.17 5.08,1.27 cw(c5.48,1.27) 5.88,1.27 5.88,-6.17 ; 9.4,-9.67 15.6,-9.67 9.539,-9.67 ; 10,-11.57 10,-16.77 15,-16.77 15,-11.57 ; 10,-9.67 10,-9.17 15,-9.17 15,-9.67
3D body "v160-080.stp": height 0.02, standoff -1.65, extent 3.31,-2.07 4.91,-0.47
3D body "v160-080.stp": height 0.02, standoff -1.65, extent -4.91,-2.07 -3.31,-0.47
3D body "v160-080.stp": height 0.02, standoff -1.65, extent -2.17,-2.07 -0.57,-0.47
3D body "v160-080.stp": height 0.02, standoff -1.65, extent 1.94,0.47 3.54,2.07
3D body "v160-080.stp": height 0.02, standoff -1.65, extent 4.68,0.47 6.28,2.07
3D body "v160-080.stp": height 0.02, standoff -1.65, extent -6.28,0.47 -4.68,2.07
3D body "v160-080.stp": height 0.02, standoff -1.65, extent -3.54,0.47 -1.94,2.07
3D body "v160-080.stp": height 0.02, standoff -1.65, extent -0.8,0.47 0.8,2.07
3D body "v160-080.stp": height 0.02, standoff -1.65, extent 0.57,-2.07 2.17,-0.47
3D body "AMPHENOL_L717DFE09S1ATN.stp": height 13.45, standoff -3.95, extent -15.6,-17.67 15.6,2.93
3D body "v160-080.stp": height 0.02, standoff -1.65, extent 3.31,-2.07 4.91,-0.47
3D body "v160-080.stp": height 0.02, standoff -1.65, extent -4.91,-2.07 -3.31,-0.47
3D body "v160-080.stp": height 0.02, standoff -1.65, extent -2.17,-2.07 -0.57,-0.47
3D body "v160-080.stp": height 0.02, standoff -1.65, extent 1.94,0.47 3.54,2.07
3D body "v160-080.stp": height 0.02, standoff -1.65, extent 4.68,0.47 6.28,2.07
3D body "v160-080.stp": height 0.02, standoff -1.65, extent -6.28,0.47 -4.68,2.07
3D body "v160-080.stp": height 0.02, standoff -1.65, extent -3.54,0.47 -1.94,2.07
3D body "v160-080.stp": height 0.02, standoff -1.65, extent -0.8,0.47 0.8,2.07
3D body "v160-080.stp": height 0.02, standoff -1.65, extent 0.57,-2.07 2.17,-0.47